# Altium footprint library PcbLib1.PcbLib: 23 footprints (part 2 of 2)
Each footprint in its own frame and in the unit in brackets; x right, y up, seen from the top. Pads: shape width x height; smd on the part's side, far side on the other; paste and mask are expansions set on the pad; w line width, h text height; cw(c..) or ccw(c..) is an arc to the next point about the centre after c.
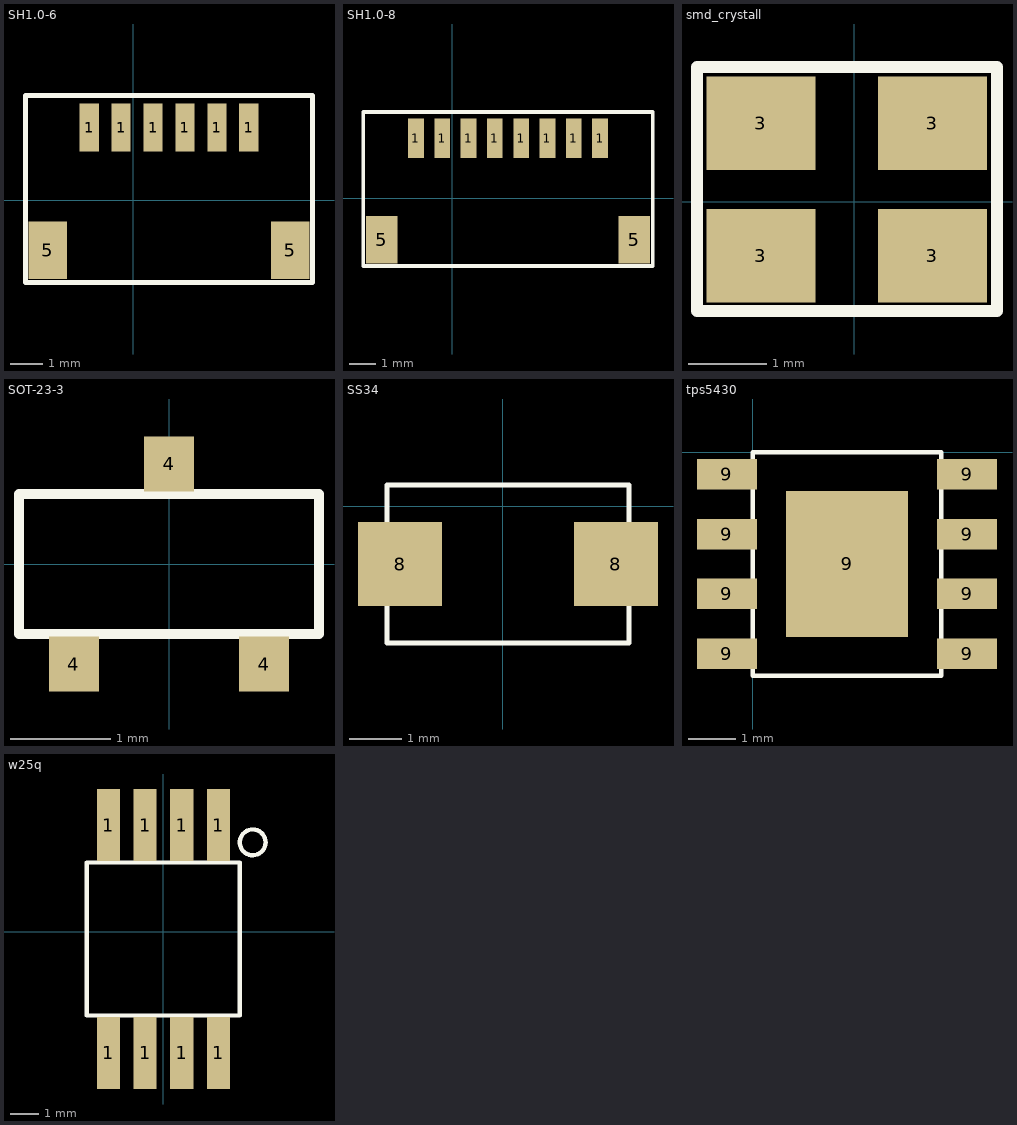
[diagram p1: the footprints below, top view; thin cyan lines are the x and y axes]

## SH1.0-6 [mm]
pads (8):
  rect 0.6x1.5 smd: 1(-1.38,2.28) 1(-0.38,2.28) 1(0.62,2.28) 1(1.62,2.28) 1(2.62,2.28) 1(3.62,2.28)
  rect 1.2x1.8 smd: 5(-2.68,-1.57) 5(4.92,-1.57)
Top Overlay:
  lines w0.15: -3.38,-2.57 -3.38,3.281 5.62,3.281 5.62,-2.57 -3.38,-2.57

## SH1.0-8 [mm]
pads (10):
  rect 0.6x1.5 smd: 1(-1.38,2.28) 1(-0.38,2.28) 1(0.62,2.28) 1(1.62,2.28) 1(2.62,2.28) 1(3.62,2.28) 1(4.62,2.28) 1(5.62,2.28)
  rect 1.2x1.8 smd: 5(-2.68,-1.57) 5(6.92,-1.57)
Top Overlay:
  lines w0.15: -3.38,-2.57 7.62,-2.57 7.62,3.281 -3.38,3.281 -3.38,-2.57

## smd_crystall [mm] "smd_crystall"
pads (4):
  rect 1.4x1.2 smd: 3(-1.2,-0.69) 3(-1.2,1.01) 3(1,-0.69) 3(1,1.01)
Top Overlay:
  lines w0.15: -2.02,-1.4 1.83,-1.4 1.83,1.73 -2.02,1.73 -2.02,-1.4

## SOT-23-3 [mm] "SOT-23-3"
pads (3):
  rect 0.5x0.55 smd: 4(-0.95,-1) 4(0,1) 4(0.95,-1)
Top Overlay:
  lines w0.1: -1.5,-0.7 1.5,-0.7 1.5,0.7 -1.5,0.7 -1.5,-0.7

## SS34 [mm] "SS34"
pads (2):
  rect 1.6x1.6 smd: 8(-1.95,-1.1) 8(2.15,-1.1)
Top Overlay:
  lines w0.1: -2.2,-2.6 2.4,-2.6 2.4,0.4 -2.2,0.4 -2.2,-2.6

## tps5430 [mm] "tps5430"
pads (9):
  rect 1.27x0.65 smd: 9(-0.55,-4.28) 9(-0.55,-3.01) 9(-0.55,-1.74) 9(-0.55,-0.47) 9(4.55,-4.28) 9(4.55,-3.01) 9(4.55,-1.74) 9(4.55,-0.47)
  rect 2.6x3.1 smd: 9(2,-2.375)
Top Overlay:
  lines w0.1: 0,-4.75 4,-4.75 4,0 0,0 0,-4.75

## w25q [mm] "w25q"
pads (8):
  rect 0.8x2.5 smd: 1(-1.9,-4.2) 1(-1.9,3.7) 1(-0.63,-4.2) 1(-0.63,3.7) 1(0.64,-4.2) 1(0.64,3.7) 1(1.91,-4.2) 1(1.91,3.7)
Top Overlay:
  circle w0.15: c3.1,3.1 r0.447
  lines w0.15: -2.65,-2.9 2.65,-2.9 2.65,2.4 -2.65,2.4 -2.65,-2.9